# EAGLE library part MIC2876 (library Microchip)
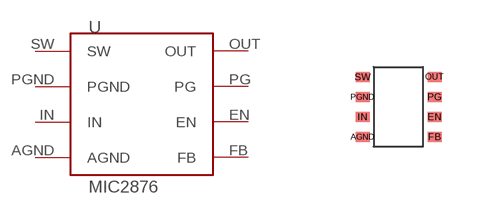
[diagram p144: symbol with the pads of DFN-2X2; footprint DFN-2X2]

Designator prefix U

## MIC2876  [DFN-2X2]
AGND  AGND
EN  EN
FB  FB
IN  IN
OUT  OUT
PG  PG
PGND  PGND
SW  SW

## Footprint DFN-2X2 (pad centres in mm)
smd 0.35 x 0.25: AGND -0.9,-0.8; EN 0.9,-0.3; FB 0.9,-0.8; IN -0.9,-0.3; OUT 0.9,0.7; PG 0.9,0.2; PGND -0.9,0.2; SW -0.9,0.7